# Altium footprint library MPY634 Lib.PcbLib: 1 footprints
Each footprint in its own frame and in the unit in brackets; x right, y up, seen from the top. Pads: shape width x height; smd on the part's side, far side on the other; paste and mask are expansions set on the pad; w line width, h text height; cw(c..) or ccw(c..) is an arc to the next point about the centre after c.
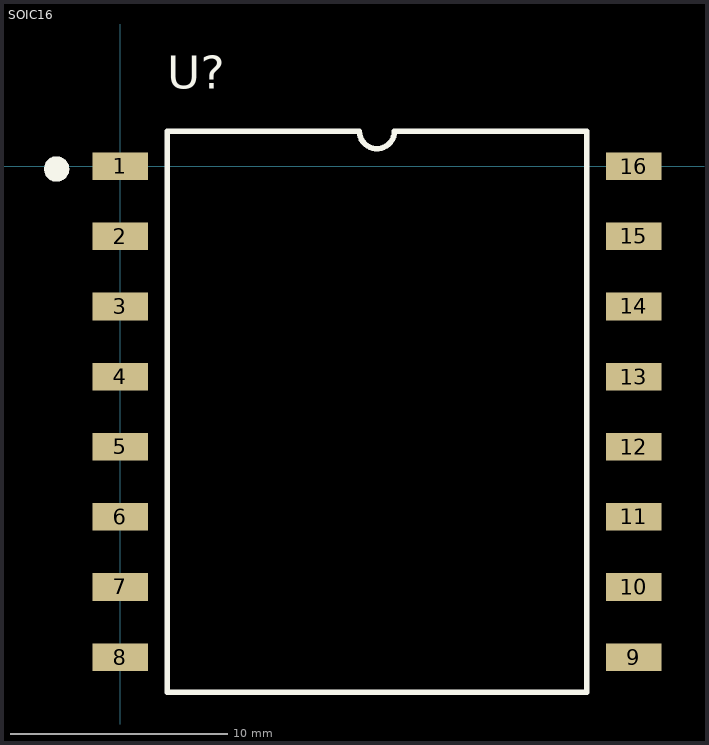
[diagram p0: the footprint, top view; thin cyan lines are the x and y axes]

## SOIC16 [mil]
pads (16):
  rect 100x50 smd: 1(0,0) 2(0,-127) 3(0,-254) 4(0,-381) 5(0,-508) 6(0,-635) 7(0,-762) 8(0,-889) 9(930,-889) 10(930,-762) 11(930,-635) 12(930,-508) 13(930,-381) 14(930,-254) 15(930,-127) 16(930,0)
Top Overlay:
  circle w10: c-115,-5 r18.03
  rectangle: -130,-20 -100,10
  lines w10: 85,-952.5 845,-952.5 845,63.5 496.75,63.5 cw(c465,63.5) 433.25,63.5 85,63.5 85,-952.5
  text "U?" at 85,140 h60